# Altium integrated library ICs - Flash Memories.IntLib: 4 symbols
Pins are listed as number, name and electrical type; pins without a type are passive.

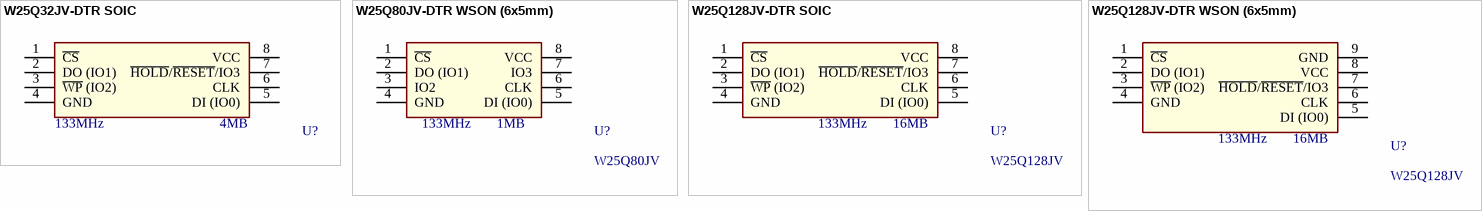
[diagram p0: symbols W25Q32JV-DTR SOIC to W25Q128JV-DTR WSON (6x5mm)]

## W25Q32JV-DTR SOIC
designator U?, comment Memory: 4MB  Frequency: 133MHz  (hidden comment: W25Q32JV)
FLASH - NOR Memory IC 32Mb (4M x 8) SPI - Quad I/O 133MHz  8-SOIC; Manufacturer 1: Winbond Electronics; Manufacturer 1 PN: W25Q32JVSSIQ TR; ComponentLink1Description: Datasheet; ComponentLink1URL: https://www.winbond.com/resource-files/w25q80jv%20spi%20revc%2008182016.pdf; Digikey PN: W25Q32JVSSIQCT-ND; Mouser PN: 454-W25Q32JVSSIQTR
footprint W25Q32JV-DTR SOIC (FLASH - NOR Memory IC 32Mb (4M x 8) SPI - Quad I/O 133MHz  8-SOIC)
pins: 1 ~{CS} (power), 2 DO (IO1) (power), 3 ~{WP} (IO2) (power), 4 GND (power), 5 DI (IO0) (power), 6 CLK (power), 7 ~{HOLD}/~{RESET}/IO3 (power), 8 VCC (power)

## W25Q80JV-DTR WSON (6x5mm)
designator U?, comment W25Q80JV  Memory: 1MB  Frequency: 133MHz
FLASH - NOR Memory IC 8Mb (1M x 8) SPI 133MHz  8-WSON (6x5); Manufacturer 1: Winbond Electronics; Manufacturer 1 PN: W25Q80JVZPIQ; ComponentLink1Description: Datasheet; ComponentLink1URL: https://www.winbond.com/resource-files/w25q80jv%20spi%20revc%2008182016.pdf; Digikey PN: W25Q80JVZPIQ-ND
pins: 1 ~{CS} (power), 2 DO (IO1) (power), 3 IO2 (power), 4 GND (power), 5 DI (IO0) (power), 6 CLK (power), 7 IO3 (power), 8 VCC (power)

## W25Q128JV-DTR SOIC
designator U?, comment W25Q128JV  Memory: 16MB  Frequency: 133MHz
FLASH - NOR Memory IC 128Mb (16M x 8) SPI - Quad I/O, QPI, DTR 133MHz  8-SOIC; Manufacturer 1: Winbond Electronics; Manufacturer 1 PN: W25Q128JVSIM TR; ComponentLink1Description: Datasheet; ComponentLink1URL: https://www.winbond.com/resource-files/w25q80jv%20spi%20revc%2008182016.pdf; Digikey PN: W25Q128JVSIMCT-ND; Mouser PN: 454-W25Q128JVSIMTR
footprint W25Q128JV-DTR SOIC (FLASH - NOR Memory IC 128Mb (16M x 8) SPI - Quad I/O, QPI, DTR 133MHz  8-SOIC)
pins: 1 ~{CS} (power), 2 DO (IO1) (power), 3 ~{WP} (IO2) (power), 4 GND (power), 5 DI (IO0) (power), 6 CLK (power), 7 ~{HOLD}/~{RESET}/IO3 (power), 8 VCC (power)

## W25Q128JV-DTR WSON (6x5mm)
designator U?, comment W25Q128JV  Memory: 16MB  Frequency: 133MHz
FLASH - NOR Memory IC 128Mb (16M x 8) SPI - Quad I/O, QPI, DTR 133MHz  8-WSON (6x5)(6x5); Manufacturer 1: Winbond Electronics; Manufacturer 1 PN: W25Q128JVPIM TR; ComponentLink1Description: Datasheet; ComponentLink1URL: https://www.winbond.com/resource-files/w25q80jv%20spi%20revc%2008182016.pdf; Digikey PN: W25Q128JVPIMCT-ND; Mouser PN: 454-W25Q128JVPIMTR
footprint W25Q128JV-DTR WSON (6x5mm) (FLASH - NOR Memory IC 128Mb (16M x 8) SPI - Quad I/O, QPI, DTR 133MHz  8-WSON (6x5))
pins: 1 ~{CS} (power), 2 DO (IO1) (power), 3 ~{WP} (IO2) (power), 4 GND (power), 5 DI (IO0) (power), 6 CLK (power), 7 ~{HOLD}/~{RESET}/IO3 (power), 8 VCC (power), 9 GND (power)